# Altium footprint library 薛加彬元件封装库.PcbLib: 38 footprints (part 2 of 3)
Each footprint in its own frame and in the unit in brackets; x right, y up, seen from the top. Pads: shape width x height; smd on the part's side, far side on the other; paste and mask are expansions set on the pad; w line width, h text height; cw(c..) or ccw(c..) is an arc to the next point about the centre after c.
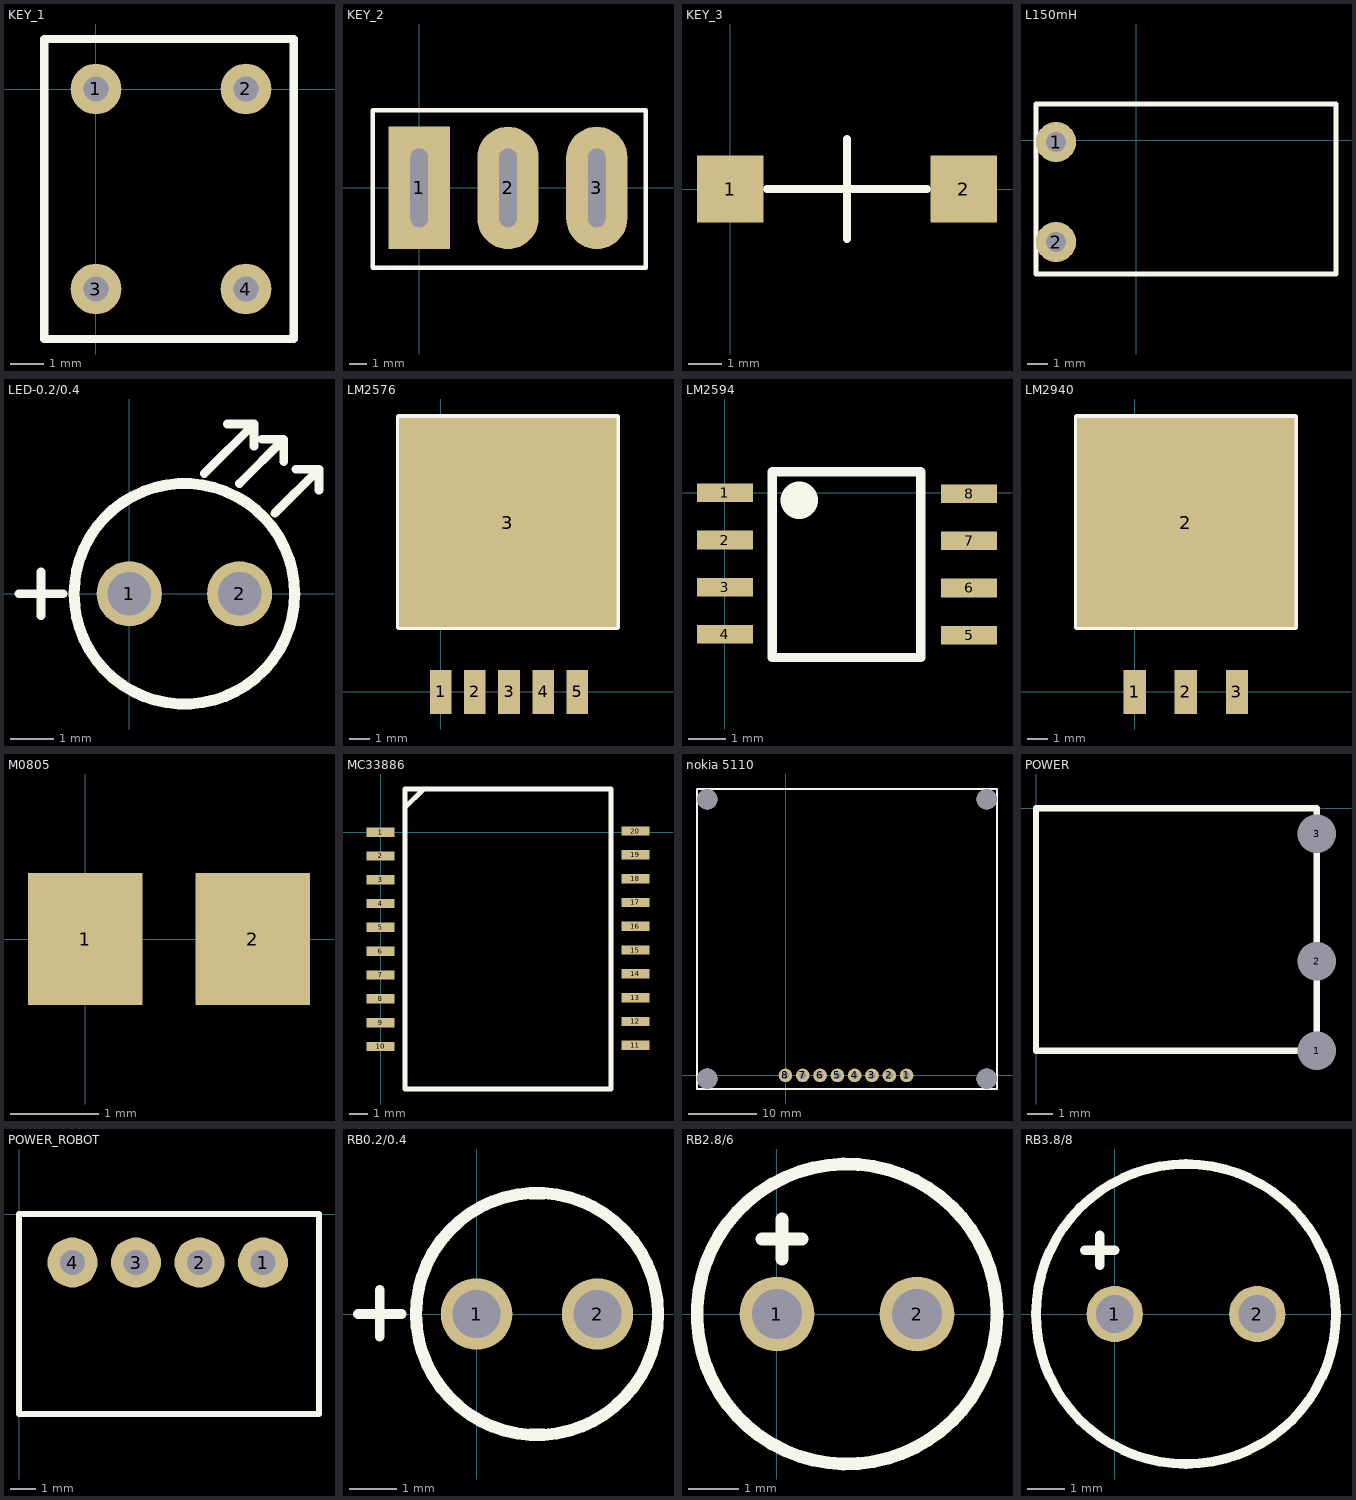
[diagram p1: the footprints below, top view; thin cyan lines are the x and y axes]

## KEY_1 [mil]
pads (4):
  round 60 hole 30: 1(0,0) 2(177.17,0) 3(0,-236.22) 4(177.17,-236.22)
Top Overlay:
  lines w10: -61.26,-295.04 -61.26,59.06 233.74,59.06 233.74,-295.28 15.63,-295.28 -61.02,-295.28 -61.26,-295.04

## KEY_2 [mm]
pads (3):
  rect 3.5x7 hole 1 slot 4.5 at 90 deg: 1(0,0)
  oval 3.5x7 hole 1 slot 4.5 at 90 deg: 2(5.08,0) 3(10.16,0)
Top Overlay:
  lines w0.254: -2.667,-4.572 -2.667,4.445 12.954,4.445 12.954,-4.572 -2.667,-4.572

## KEY_3 [mm]
pads (2):
  rect 2x2 smd: 1(0,0) 2(7,0)
Top Overlay:
  lines w0.254: 1.1,0 5.9,0 ; 3.5,-1.5 3.5,1.5

## L150mH [mm]
pads (2):
  round 2 hole 1: 1(-4,-0.1) 2(-4,-5.1)
Top Overlay:
  lines w0.254: -5,-6.7 -5,1.8 9.5,1.8 10,1.8 10,-6.7 9.5,-6.7 -5,-6.7

## LED-0.2/0.4 [mm]
pads (2):
  round 1.5 hole 1: 1(0,0) 2(2.54,0)
Top Overlay:
  circle w0.254: c1.27,0 r2.54
  lines w0.2: -2.54,0 -1.524,0 ; -2.032,-0.508 -2.032,0.508 ; 1.727,2.769 2.87,3.912 ; 2.261,3.912 2.87,3.912 ; 2.54,2.54 3.556,3.556 ; 2.87,3.404 2.87,3.912 ; 3.048,3.556 3.556,3.556 ; 3.353,1.854 4.369,2.87 ; 3.556,3.048 3.556,3.556 ; 3.835,2.87 4.369,2.87 ; 4.369,2.388 4.369,2.87

## LM2576 [mm]
pads (6):
  rect 1.07x2.2 smd: 1(0,0) 2(1.7,0) 3(3.4,0) 4(5.1,0) 5(6.8,0)
  rect 10.8x10.4 smd: 3(3.34,8.42)
Top Overlay:
  lines w0.254: -2.1,3.2 -2.1,13.7 8.8,13.7 8.8,3.2 -2.1,3.2

## LM2594 [mm]
pads (8):
  rect 1.5x0.5 smd: 1(0,0) 2(0,-1.27) 3(0,-2.54) 4(0,-3.81) 5(6.57,-3.83) 6(6.57,-2.56) 7(6.57,-1.29) 8(6.57,-0.02)
Top Overlay:
  lines w0.254: 1.27,-4.43 5.27,-4.43 5.27,0.57 1.27,0.57 1.27,-4.43
  lines w1: 2,-0.2 2,-0.2

## LM2940 [mm]
pads (4):
  rect 1.1x2.2 smd: 1(0,0) 2(2.54,0) 3(5.08,0)
  rect 10.8x10.4 smd: 2(2.54,8.42)
Top Overlay:
  lines w0.254: -2.9,3.2 8,3.2 8,13.7 -2.9,13.7 -2.9,3.2

## M0805 [mm]
pads (2):
  rect 1.3x1.5 smd: 1(0,0) 2(1.9,0)

## MC33886 [mm]
pads (20):
  rect 1.5x0.5 smd: 1(0,0) 2(0,-1.27) 3(0,-2.54) 4(0,-3.81) 5(0,-5.08) 6(0,-6.35) 7(0,-7.62) 8(0,-8.89) 9(0,-10.16) 10(0,-11.43) 11(13.6,-11.37) 12(13.6,-10.1) 13(13.6,-8.83) 14(13.6,-7.56) 15(13.6,-6.29) 16(13.6,-5.02) 17(13.6,-3.75) 18(13.6,-2.48) 19(13.6,-1.21) 20(13.6,0.06)
Top Overlay:
  lines w0.254: 1.3,1.3 2.3,2.3 ; 1.3,-13.7 12.3,-13.7 12.3,2.3 1.3,2.3 1.3,-13.7

## nokia 5110 [mm]
pads (12):
  round 2 hole 1: 1(17.746,0) 2(15.206,0) 3(12.666,0) 4(10.126,0) 5(7.586,0) 6(5.046,0) 7(2.506,0) 8(-0.034,0)
  round 3 hole 3: ""(-11.5,-0.5) ""(-11.5,40.5) ""(29.5,40.5) ""(29.5,-0.5)
Top Overlay:
  lines w0.254: -13,-2 31,-2 31,42 -13,42 -13,-2

## POWER [mm]
pads (3):
  oval 1.5x0.5 hole 1.5: 1(11,-9.5) 2(11,-6) 3(11,-1)
Top Overlay:
  lines w0.254: 0,-9.5 11,-9.5 11,0 0,0 0,-9.5

## POWER_ROBOT [mm]
pads (4):
  round 2 hole 1: 1(9.76,-1.94) 2(7.22,-1.94) 3(4.68,-1.94) 4(2.14,-1.94)
Top Overlay:
  lines w0.254: 0,-8 0,0 12,0 12,-8 0,-8

## RB0.2/0.4 [mm]
pads (2):
  round 1.5 hole 1: 1(0,0) 2(2.54,0)
Top Overlay:
  circle w0.254: c1.27,0 r2.54
  lines w0.2: -2.489,0 -1.575,0 ; -2.032,-0.483 -2.032,0.508

## RB2.8/6 [mm]
pads (2):
  round 1.5 hole 1: 1(0,0) 2(2.8,0)
Top Overlay:
  circle w0.254: c1.4,0 r3
  lines w0.254: -0.3,1.5 0.5,1.5 ; 0.1,1.1 0.1,1.9

## RB3.8/8 [mm]
pads (2):
  round 1.5 hole 1: 1(0,0) 2(3.8,0)
Top Overlay:
  circle w0.254: c1.9,0 r4
  lines w0.254: -0.8,1.7 0,1.7 ; -0.4,1.3 -0.4,2.1